# Altium schematic symbol library SCH- LEADED - SOIC - MAX14932FAWE+.Schlib: 1 symbol
Pins are listed as number, name and electrical type; pins without a type are passive.

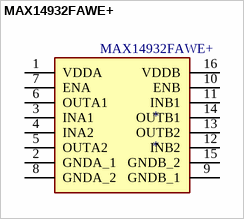
[diagram p0: symbol MAX14932FAWE+]

## MAX14932FAWE+
designator *
Digital Isolator 16-Pin SOIC W Tube
pins: 1 VDDA, 2 GNDA_1, 3 INA1, 4 INA2, 5 OUTA2, 6 OUTA1, 7 ENA, 8 GNDA_2, 9 GNDB_1, 10 ENB, 11 INB1, 12 INB2, 13 OUTB2, 14 OUTB1, 15 GNDB_2, 16 VDDB